# Altium footprint library MRF24J40MB.PcbLib: 1 footprints
Each footprint in its own frame and in the unit in brackets; x right, y up, seen from the top. Pads: shape width x height; smd on the part's side, far side on the other; paste and mask are expansions set on the pad; w line width, h text height; cw(c..) or ccw(c..) is an arc to the next point about the centre after c.
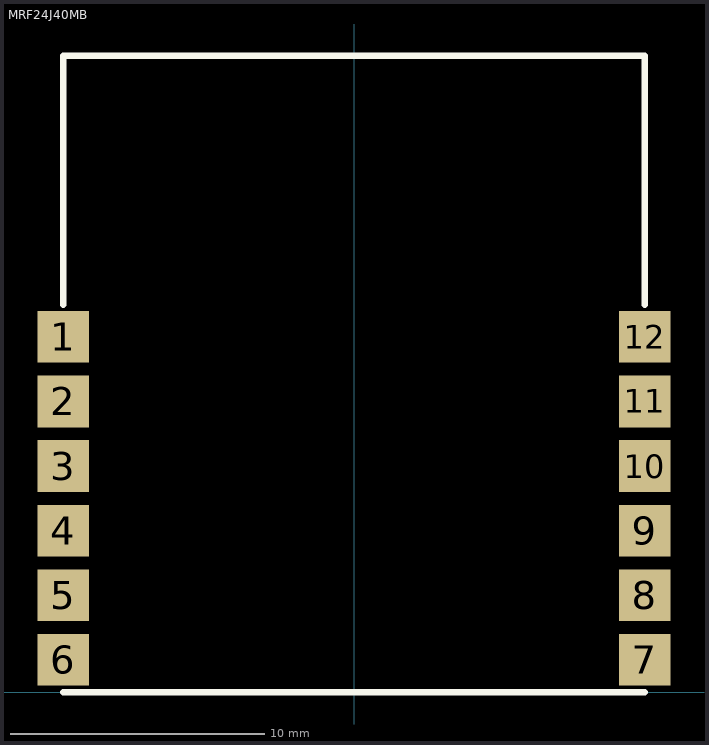
[diagram p0: the footprint, top view; thin cyan lines are the x and y axes]

## MRF24J40MB [mil]
pads (12):
  rect 80x80 smd: 1(-450,550) 2(-450,450) 3(-450,350) 4(-450,250) 5(-450,150) 6(-450,50) 7(450,50) 8(450,150) 9(450,250) 10(450,350) 11(450,450) 12(450,550)
Top Overlay:
  lines w10: -450,0 450,0 ; -450,600 -450,985 450,985 450,600
3D body: height 132.01, standoff -0.2, extent -450.2,0 450.2,1300